# EAGLE library part FH26W-39S (library WISE)
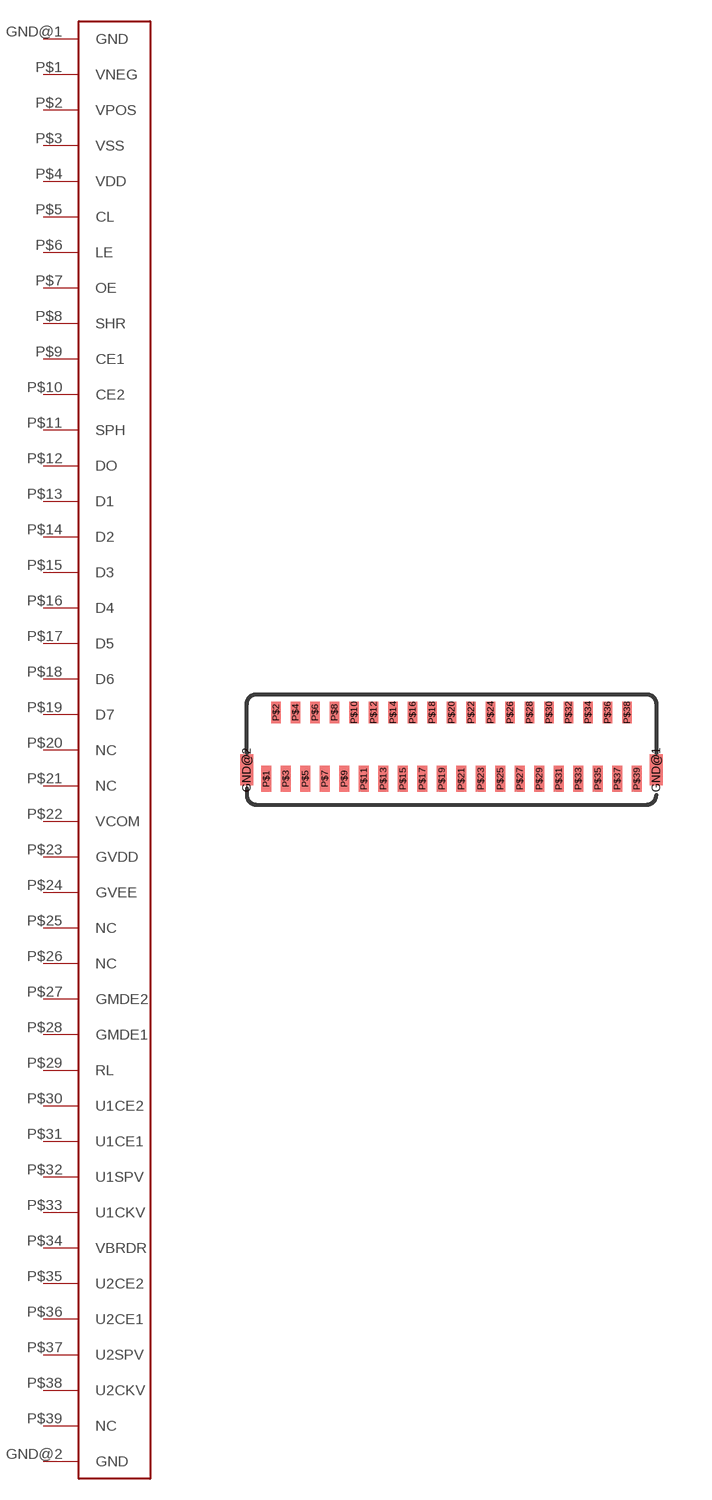
[diagram p3: symbol with the pads of HFQ339CT-ND; footprint HFQ339CT-ND]

Designator prefix -

## FH26W-39S  [HFQ339CT-ND]
GND@1  GND
GND@2  GND
P$1  VNEG
P$2  VPOS
P$3  VSS
P$4  VDD
P$5  CL
P$6  LE
P$7  OE
P$8  SHR
P$9  CE1
P$10  CE2
P$11  SPH
P$12  DO
P$13  D1
P$14  D2
P$15  D3
P$16  D4
P$17  D5
P$18  D6
P$19  D7
P$20  NC
P$21  NC
P$22  VCOM
P$23  GVDD
P$24  GVEE
P$25  NC
P$26  NC
P$27  GMDE2
P$28  GMDE1
P$29  RL
P$30  U1CE2
P$31  U1CE1
P$32  U1SPV
P$33  U1CKV
P$34  VBRDR
P$35  U2CE2
P$36  U2CE1
P$37  U2SPV
P$38  U2CKV
P$39  NC

## Footprint HFQ339CT-ND (pad centres in mm)
smd 0.4 x 0.95: GND@1 6.6,-0.925; GND@2 -6,-0.925
smd 0.3 x 0.8: P$1 -5.4,-1.2; P$3 -4.8,-1.2; P$5 -4.2,-1.2; P$7 -3.6,-1.2; P$9 -3,-1.2; P$11 -2.4,-1.2; P$13 -1.8,-1.2; P$15 -1.2,-1.2; P$17 -0.6,-1.2; P$19 0,-1.2; P$21 0.6,-1.2; P$23 1.2,-1.2; P$25 1.8,-1.2; P$27 2.4,-1.2; P$29 3,-1.2; P$31 3.6,-1.2; P$33 4.2,-1.2; P$35 4.8,-1.2; P$37 5.4,-1.2; P$39 6,-1.2
smd 0.3 x 0.65: P$2 -5.1,0.838; P$4 -4.5,0.838; P$6 -3.9,0.838; P$8 -3.3,0.838; P$10 -2.7,0.838; P$12 -2.1,0.838; P$14 -1.5,0.838; P$16 -0.9,0.838; P$18 -0.3,0.838; P$20 0.3,0.838; P$22 0.9,0.838; P$24 1.5,0.838; P$26 2.1,0.838; P$28 2.7,0.838; P$30 3.3,0.838; P$32 3.9,0.838; P$34 4.5,0.838; P$36 5.1,0.838; P$38 5.7,0.838